# Altium integrated library Diodes - TVS.IntLib: 5379 symbols (part 121 of 122)
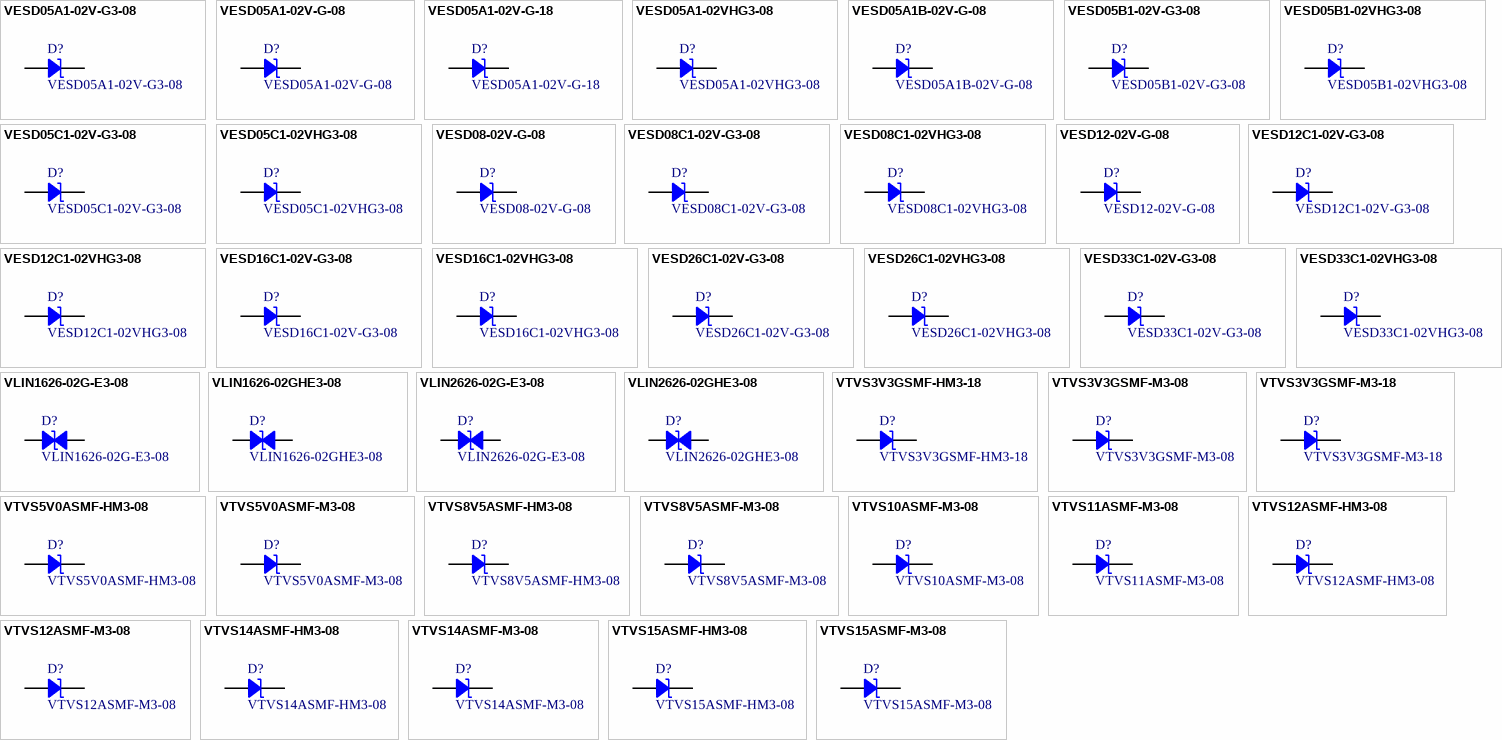
[diagram p254: symbols VESD05A1-02V-G3-08 to VTVS15ASMF-M3-08]

## VESD08-02V-G-08
designator D?
TVS DIODE 8V 30V SOD523; Manufacturer: Vishay Semiconductor Diodes Division; Capacitance @ Frequency: 35pF @ 1MHz; Current - Peak Pulse (10/1000µs): 4A (8/20µs); Power Line Protection: No; Power - Peak Pulse: 120W; Type: Zener; Unidirectional Channels: 1; Voltage - Breakdown (Min): 9V; Voltage - Clamping (Max) @ Ipp: 30V (Typ); Voltage - Reverse Standoff (Typ): 8V (Max); Part Number: VESD08-02V-G-08; Applications: General Purpose; ComponentLink1Description: Datasheet; ComponentLink1URL: https://www.vishay.com/docs/83367/vesdxx02v.pdf; ComponentLink2Description: DigiKey Link; ComponentLink2URL: http://digikey.com/product-detail/en/vishay-semiconductor-diodes-division/VESD08-02V-G-08/VESD08-02V-G-08CT-ND/2658771; LastUpdated: 9/2/2020 1:28:24 AM; Lifecycle Status: Active; Minimum Order: 1; Mounting Type: Surface Mount; Operating Temperature: -40°C ~ 125°C (TJ); Package / Case: SC-79, SOD-523; Packaging: TapeAndReel; PartId: 9734; Part Status: Active; Price: 0.08; Series: -; Supplier 1: DigiKey; Supplier Part Number 1: VESD08-02V-G-08CT-ND; Supplier Device Package: SOD-523
footprint SOD523F
pins: 1, 2

## VESD08C1-02V-G3-08
designator D?
ESD PROTECTION DIODE SOD-523; Manufacturer: Vishay Semiconductor Diodes Division; Capacitance @ Frequency: 47pF @ 1MHz; Current - Peak Pulse (10/1000µs): 6.6A (8/20µs); Power Line Protection: No; Power - Peak Pulse: 100W; Type: Zener; Unidirectional Channels: 1; Voltage - Breakdown (Min): 9.5V; Voltage - Clamping (Max) @ Ipp: 15.3V; Voltage - Reverse Standoff (Typ): 8V (Max); Part Number: VESD08C1-02V-G3-08; Applications: Automotive; ComponentLink1Description: Datasheet; ComponentLink1URL: http://www.vishay.com/docs/86130/vesd01c1-02vtovesd33c1-02v.pdf; ComponentLink2Description: DigiKey Link; ComponentLink2URL: http://digikey.com/product-detail/en/vishay-semiconductor-diodes-division/VESD08C1-02V-G3-08/VESD08C1-02V-G3-08GICT-ND/9948017; LastUpdated: 9/2/2020 1:28:24 AM; Lifecycle Status: Active; Minimum Order: 1; Mounting Type: Surface Mount; Operating Temperature: -55°C ~ 150°C (TJ); Package / Case: SC-79, SOD-523; Packaging: TapeAndReel; PartId: 9730; Part Status: Active; Price: 0.06; Series: Automotive, AEC-Q101; Supplier 1: DigiKey; Supplier Part Number 1: VESD08C1-02V-G3-08GICT-ND; Supplier Device Package: SOD-523
footprint SOD523F
pins: 1, 2

## VESD08C1-02VHG3-08
designator D?
ESD PROTECTION DIODE SOD-523; Manufacturer: Vishay Semiconductor Diodes Division; Capacitance @ Frequency: 47pF @ 1MHz; Current - Peak Pulse (10/1000µs): 6.6A (8/20µs); Power Line Protection: No; Power - Peak Pulse: 100W; Type: Zener; Unidirectional Channels: 1; Voltage - Breakdown (Min): 9.5V; Voltage - Clamping (Max) @ Ipp: 15.3V; Voltage - Reverse Standoff (Typ): 8V (Max); Part Number: VESD08C1-02VHG3-08; Applications: Automotive; ComponentLink1Description: Datasheet; ComponentLink1URL: http://www.vishay.com/docs/86130/vesd01c1-02vtovesd33c1-02v.pdf; ComponentLink2Description: DigiKey Link; ComponentLink2URL: http://digikey.com/product-detail/en/vishay-semiconductor-diodes-division/VESD08C1-02VHG3-08/VESD08C1-02VHG3-08GICT-ND/9948027; LastUpdated: 9/2/2020 1:28:24 AM; Lifecycle Status: Active; Minimum Order: 1; Mounting Type: Surface Mount; Operating Temperature: -55°C ~ 150°C (TJ); Package / Case: SC-79, SOD-523; Packaging: TapeAndReel; PartId: 9787; Part Status: Active; Price: 0.06; Series: Automotive, AEC-Q101; Supplier 1: DigiKey; Supplier Part Number 1: VESD08C1-02VHG3-08GICT-ND; Supplier Device Package: SOD-523
footprint SOD523F
pins: 1, 2

## VESD12-02V-G-08
designator D?
TVS DIODE 12V 25V SOD523; Manufacturer: Vishay Semiconductor Diodes Division; Capacitance @ Frequency: 30pF @ 1MHz; Current - Peak Pulse (10/1000µs): 2A (8/20µs); Power Line Protection: No; Power - Peak Pulse: 25W; Type: Zener; Unidirectional Channels: 1; Voltage - Breakdown (Min): 14V; Voltage - Clamping (Max) @ Ipp: 25V (Typ); Voltage - Reverse Standoff (Typ): 12V (Max); Part Number: VESD12-02V-G-08; Applications: General Purpose; ComponentLink1Description: Datasheet; ComponentLink1URL: https://www.vishay.com/docs/83367/vesdxx02v.pdf; ComponentLink2Description: DigiKey Link; ComponentLink2URL: http://digikey.com/product-detail/en/vishay-semiconductor-diodes-division/VESD12-02V-G-08/VESD12-02V-G-08CT-ND/2658778; LastUpdated: 9/2/2020 1:28:24 AM; Lifecycle Status: Active; Minimum Order: 1; Mounting Type: Surface Mount; Operating Temperature: -40°C ~ 125°C (TJ); Package / Case: SC-79, SOD-523; Packaging: TapeAndReel; PartId: 9748; Part Status: Active; Price: 0.08; Series: -; Supplier 1: DigiKey; Supplier Part Number 1: VESD12-02V-G-08CT-ND; Supplier Device Package: SOD-523
footprint SOD523F
pins: 1, 2

## VESD12C1-02V-G3-08
designator D?
ESD PROTECTION DIODE SOD-523; Manufacturer: Vishay Semiconductor Diodes Division; Capacitance @ Frequency: 33pF @ 1MHz; Current - Peak Pulse (10/1000µs): 4.4A (8/20µs); Power Line Protection: No; Power - Peak Pulse: 100W; Type: Zener; Unidirectional Channels: 1; Voltage - Breakdown (Min): 13.9V; Voltage - Clamping (Max) @ Ipp: 22.7V; Voltage - Reverse Standoff (Typ): 12V (Max); Part Number: VESD12C1-02V-G3-08; Applications: Automotive; ComponentLink1Description: Datasheet; ComponentLink1URL: http://www.vishay.com/docs/86130/vesd01c1-02vtovesd33c1-02v.pdf; ComponentLink2Description: DigiKey Link; ComponentLink2URL: http://digikey.com/product-detail/en/vishay-semiconductor-diodes-division/VESD12C1-02V-G3-08/VESD12C1-02V-G3-08GICT-ND/9948018; LastUpdated: 9/2/2020 1:28:24 AM; Lifecycle Status: Active; Minimum Order: 1; Mounting Type: Surface Mount; Operating Temperature: -55°C ~ 150°C (TJ); Package / Case: SC-79, SOD-523; Packaging: TapeAndReel; PartId: 9732; Part Status: Active; Price: 0.06; Series: Automotive, AEC-Q101; Supplier 1: DigiKey; Supplier Part Number 1: VESD12C1-02V-G3-08GICT-ND; Supplier Device Package: SOD-523
footprint SOD523F
pins: 1, 2

## VESD12C1-02VHG3-08
designator D?
ESD PROTECTION DIODE SOD-523; Manufacturer: Vishay Semiconductor Diodes Division; Capacitance @ Frequency: 33pF @ 1MHz; Current - Peak Pulse (10/1000µs): 4.4A (8/20µs); Power Line Protection: No; Power - Peak Pulse: 100W; Type: Zener; Unidirectional Channels: 1; Voltage - Breakdown (Min): 13.9V; Voltage - Clamping (Max) @ Ipp: 22.7V; Voltage - Reverse Standoff (Typ): 12V (Max); Part Number: VESD12C1-02VHG3-08; Applications: Automotive; ComponentLink1Description: Datasheet; ComponentLink1URL: http://www.vishay.com/docs/86130/vesd01c1-02vtovesd33c1-02v.pdf; ComponentLink2Description: DigiKey Link; ComponentLink2URL: http://digikey.com/product-detail/en/vishay-semiconductor-diodes-division/VESD12C1-02VHG3-08/VESD12C1-02VHG3-08GICT-ND/9948028; LastUpdated: 9/2/2020 1:28:24 AM; Lifecycle Status: Active; Minimum Order: 1; Mounting Type: Surface Mount; Operating Temperature: -55°C ~ 150°C (TJ); Package / Case: SC-79, SOD-523; Packaging: TapeAndReel; PartId: 9738; Part Status: Active; Price: 0.06; Series: Automotive, AEC-Q101; Supplier 1: DigiKey; Supplier Part Number 1: VESD12C1-02VHG3-08GICT-ND; Supplier Device Package: SOD-523
footprint SOD523F
pins: 1, 2

## VESD16C1-02V-G3-08
designator D?
ESD PROTECTION DIODE SOD-523; Manufacturer: Vishay Semiconductor Diodes Division; Capacitance @ Frequency: 27pF @ 1MHz; Current - Peak Pulse (10/1000µs): 3.6A (8/20µs); Power Line Protection: No; Power - Peak Pulse: 100W; Type: Zener; Unidirectional Channels: 1; Voltage - Breakdown (Min): 17V; Voltage - Clamping (Max) @ Ipp: 28V; Voltage - Reverse Standoff (Typ): 16V (Max); Part Number: VESD16C1-02V-G3-08; Applications: Automotive; ComponentLink1Description: Datasheet; ComponentLink1URL: http://www.vishay.com/docs/86130/vesd01c1-02vtovesd33c1-02v.pdf; ComponentLink2Description: DigiKey Link; ComponentLink2URL: http://digikey.com/product-detail/en/vishay-semiconductor-diodes-division/VESD16C1-02V-G3-08/VESD16C1-02V-G3-08GICT-ND/9948019; LastUpdated: 9/2/2020 1:28:24 AM; Lifecycle Status: Active; Minimum Order: 1; Mounting Type: Surface Mount; Operating Temperature: -55°C ~ 150°C (TJ); Package / Case: SC-79, SOD-523; Packaging: TapeAndReel; PartId: 9731; Part Status: Active; Price: 0.06; Series: Automotive, AEC-Q101; Supplier 1: DigiKey; Supplier Part Number 1: VESD16C1-02V-G3-08GICT-ND; Supplier Device Package: SOD-523
footprint SOD523F
pins: 1, 2

## VESD16C1-02VHG3-08
designator D?
ESD PROTECTION DIODE SOD-523; Manufacturer: Vishay Semiconductor Diodes Division; Capacitance @ Frequency: 27pF @ 1MHz; Current - Peak Pulse (10/1000µs): 3.6A (8/20µs); Power Line Protection: No; Power - Peak Pulse: 100W; Type: Zener; Unidirectional Channels: 1; Voltage - Breakdown (Min): 17V; Voltage - Clamping (Max) @ Ipp: 28V; Voltage - Reverse Standoff (Typ): 16V (Max); Part Number: VESD16C1-02VHG3-08; Applications: Automotive; ComponentLink1Description: Datasheet; ComponentLink1URL: http://www.vishay.com/docs/86130/vesd01c1-02vtovesd33c1-02v.pdf; ComponentLink2Description: DigiKey Link; ComponentLink2URL: http://digikey.com/product-detail/en/vishay-semiconductor-diodes-division/VESD16C1-02VHG3-08/VESD16C1-02VHG3-08GICT-ND/9948029; LastUpdated: 9/2/2020 1:28:24 AM; Lifecycle Status: Active; Minimum Order: 1; Mounting Type: Surface Mount; Operating Temperature: -55°C ~ 150°C (TJ); Package / Case: SC-79, SOD-523; Packaging: TapeAndReel; PartId: 9799; Part Status: Active; Price: 0.06; Series: Automotive, AEC-Q101; Supplier 1: DigiKey; Supplier Part Number 1: VESD16C1-02VHG3-08GICT-ND; Supplier Device Package: SOD-523
footprint SOD523F
pins: 1, 2

## VESD26C1-02V-G3-08
designator D?
ESD PROTECTION DIODE SOD-523; Manufacturer: Vishay Semiconductor Diodes Division; Capacitance @ Frequency: 17.5pF @ 1MHz; Current - Peak Pulse (10/1000µs): 2.1A (8/20µs); Power Line Protection: No; Power - Peak Pulse: 100W; Type: Zener; Unidirectional Channels: 1; Voltage - Breakdown (Min): 27.6V; Voltage - Clamping (Max) @ Ipp: 48V; Voltage - Reverse Standoff (Typ): 26V (Max); Part Number: VESD26C1-02V-G3-08; Applications: Automotive; ComponentLink1Description: Datasheet; ComponentLink1URL: http://www.vishay.com/docs/86130/vesd01c1-02vtovesd33c1-02v.pdf; ComponentLink2Description: DigiKey Link; ComponentLink2URL: http://digikey.com/product-detail/en/vishay-semiconductor-diodes-division/VESD26C1-02V-G3-08/VESD26C1-02V-G3-08GICT-ND/9948020; LastUpdated: 9/2/2020 1:28:23 AM; Lifecycle Status: Active; Minimum Order: 1; Mounting Type: Surface Mount; Operating Temperature: -55°C ~ 150°C (TJ); Package / Case: SC-79, SOD-523; Packaging: TapeAndReel; PartId: 9726; Part Status: Active; Price: 0.06; Series: Automotive, AEC-Q101; Supplier 1: DigiKey; Supplier Part Number 1: VESD26C1-02V-G3-08GICT-ND; Supplier Device Package: SOD-523
footprint SOD523F
pins: 1, 2

## VESD26C1-02VHG3-08
designator D?
ESD PROTECTION DIODE SOD-523; Manufacturer: Vishay Semiconductor Diodes Division; Capacitance @ Frequency: 17.5pF @ 1MHz; Current - Peak Pulse (10/1000µs): 2.1A (8/20µs); Power Line Protection: No; Power - Peak Pulse: 100W; Type: Zener; Unidirectional Channels: 1; Voltage - Breakdown (Min): 27.6V; Voltage - Clamping (Max) @ Ipp: 48V; Voltage - Reverse Standoff (Typ): 26V (Max); Part Number: VESD26C1-02VHG3-08; Applications: Automotive; ComponentLink1Description: Datasheet; ComponentLink1URL: http://www.vishay.com/docs/86130/vesd01c1-02vtovesd33c1-02v.pdf; ComponentLink2Description: DigiKey Link; ComponentLink2URL: http://digikey.com/product-detail/en/vishay-semiconductor-diodes-division/VESD26C1-02VHG3-08/VESD26C1-02VHG3-08GICT-ND/9948030; LastUpdated: 9/2/2020 1:28:24 AM; Lifecycle Status: Active; Minimum Order: 1; Mounting Type: Surface Mount; Operating Temperature: -55°C ~ 150°C (TJ); Package / Case: SC-79, SOD-523; Packaging: TapeAndReel; PartId: 9737; Part Status: Active; Price: 0.06; Series: Automotive, AEC-Q101; Supplier 1: DigiKey; Supplier Part Number 1: VESD26C1-02VHG3-08GICT-ND; Supplier Device Package: SOD-523
footprint SOD523F
pins: 1, 2

## VESD33C1-02V-G3-08
designator D?
ESD PROTECTION DIODE SOD-523; Manufacturer: Vishay Semiconductor Diodes Division; Capacitance @ Frequency: 15pF @ 1MHz; Current - Peak Pulse (10/1000µs): 1.6A (8/20µs); Power Line Protection: No; Power - Peak Pulse: 100W; Type: Zener; Unidirectional Channels: 1; Voltage - Breakdown (Min): 35.5V; Voltage - Clamping (Max) @ Ipp: 62.5V; Voltage - Reverse Standoff (Typ): 33V (Max); Part Number: VESD33C1-02V-G3-08; Applications: Automotive; ComponentLink1Description: Datasheet; ComponentLink1URL: http://www.vishay.com/docs/86130/vesd01c1-02vtovesd33c1-02v.pdf; ComponentLink2Description: DigiKey Link; ComponentLink2URL: http://digikey.com/product-detail/en/vishay-semiconductor-diodes-division/VESD33C1-02V-G3-08/VESD33C1-02V-G3-08GICT-ND/9948021; LastUpdated: 9/2/2020 1:28:24 AM; Lifecycle Status: Active; Minimum Order: 1; Mounting Type: Surface Mount; Operating Temperature: -55°C ~ 150°C (TJ); Package / Case: SC-79, SOD-523; Packaging: TapeAndReel; PartId: 9728; Part Status: Active; Price: 0.06; Series: Automotive, AEC-Q101; Supplier 1: DigiKey; Supplier Part Number 1: VESD33C1-02V-G3-08GICT-ND; Supplier Device Package: SOD-523
footprint SOD523F
pins: 1, 2

## VESD33C1-02VHG3-08
designator D?
ESD PROTECTION DIODE SOD-523; Manufacturer: Vishay Semiconductor Diodes Division; Capacitance @ Frequency: 15pF @ 1MHz; Current - Peak Pulse (10/1000µs): 1.6A (8/20µs); Power Line Protection: No; Power - Peak Pulse: 100W; Type: Zener; Unidirectional Channels: 1; Voltage - Breakdown (Min): 35.5V; Voltage - Clamping (Max) @ Ipp: 62.5V; Voltage - Reverse Standoff (Typ): 33V (Max); Part Number: VESD33C1-02VHG3-08; Applications: Automotive; ComponentLink1Description: Datasheet; ComponentLink1URL: http://www.vishay.com/docs/86130/vesd01c1-02vtovesd33c1-02v.pdf; ComponentLink2Description: DigiKey Link; ComponentLink2URL: http://digikey.com/product-detail/en/vishay-semiconductor-diodes-division/VESD33C1-02VHG3-08/VESD33C1-02VHG3-08GICT-ND/9948031; LastUpdated: 9/2/2020 1:28:24 AM; Lifecycle Status: Active; Minimum Order: 1; Mounting Type: Surface Mount; Operating Temperature: -55°C ~ 150°C (TJ); Package / Case: SC-79, SOD-523; Packaging: TapeAndReel; PartId: 9735; Part Status: Active; Price: 0.06; Series: Automotive, AEC-Q101; Supplier 1: DigiKey; Supplier Part Number 1: VESD33C1-02VHG3-08GICT-ND; Supplier Device Package: SOD-523
footprint SOD523F
pins: 1, 2

## VLIN1626-02G-E3-08
designator D?
TVS DIODE 16/26.5V 33/50V SOD323; Manufacturer: Vishay Semiconductor Diodes Division; Bidirectional Channels: 1; Capacitance @ Frequency: 15.5pF @ 1MHz; Current - Peak Pulse (10/1000µs): 6A (8/20µs), 4A (8/20µs); Power Line Protection: No; Power - Peak Pulse: 200W; Type: Zener; Voltage - Breakdown (Min): 17.1V, 28V; Voltage - Clamping (Max) @ Ipp: 33V, 50V; Voltage - Reverse Standoff (Typ): 16V (Max), 26.5V (Max); Part Number: VLIN1626-02G-E3-08; Applications: General Purpose; ComponentLink1Description: Datasheet; ComponentLink1URL: https://www.vishay.com/docs/85902/vlin1626-02g.pdf; ComponentLink2Description: DigiKey Link; ComponentLink2URL: http://digikey.com/product-detail/en/vishay-semiconductor-diodes-division/VLIN1626-02G-E3-08/VLIN1626-02G-E3-08GICT-ND/6021437; LastUpdated: 9/2/2020 1:28:29 AM; Lifecycle Status: Active; Minimum Order: 1; Mounting Type: Surface Mount; Operating Temperature: -55°C ~ 150°C (TJ); Package / Case: SC-76, SOD-323; Packaging: TapeAndReel; PartId: 9942; Part Status: Active; Price: 0.09; Series: -; Supplier 1: DigiKey; Supplier Part Number 1: VLIN1626-02G-E3-08GICT-ND; Supplier Device Package: SOD-323
footprint SOD323
pins: 1, 2

## VLIN1626-02GHE3-08
designator D?
TVS DIODE 16/26.5V 33/50V SOD323; Manufacturer: Vishay Semiconductor Diodes Division; Bidirectional Channels: 1; Capacitance @ Frequency: 15.5pF @ 1MHz; Current - Peak Pulse (10/1000µs): 6A (8/20µs), 4A (8/20µs); Power Line Protection: No; Power - Peak Pulse: 200W; Type: Zener; Voltage - Breakdown (Min): 17.1V, 28V; Voltage - Clamping (Max) @ Ipp: 33V, 50V; Voltage - Reverse Standoff (Typ): 16V (Max), 26.5V (Max); Part Number: VLIN1626-02GHE3-08; Applications: Automotive; ComponentLink1Description: Datasheet; ComponentLink1URL: http://www.vishay.com/docs/85902/vlin1626-02g.pdf; ComponentLink2Description: DigiKey Link; ComponentLink2URL: http://digikey.com/product-detail/en/vishay-semiconductor-diodes-division/VLIN1626-02GHE3-08/VLIN1626-02GHE3-08GICT-ND/8565407; LastUpdated: 9/2/2020 1:28:29 AM; Lifecycle Status: Active; Minimum Order: 1; Mounting Type: Surface Mount; Operating Temperature: -55°C ~ 150°C (TJ); Package / Case: SC-76, SOD-323; Packaging: TapeAndReel; PartId: 9958; Part Status: Active; Price: 0.10; Series: Automotive, AEC-Q101; Supplier 1: DigiKey; Supplier Part Number 1: VLIN1626-02GHE3-08GICT-ND; Supplier Device Package: SOD-323
footprint SOD323
pins: 1, 2

## VLIN2626-02G-E3-08
designator D?
TVS DIODE 26.5V 50V SOD323; Manufacturer: Vishay Semiconductor Diodes Division; Bidirectional Channels: 1; Capacitance @ Frequency: 13.5pF @ 1MHz; Current - Peak Pulse (10/1000µs): 4A (8/20µs); Power Line Protection: No; Power - Peak Pulse: 200W; Type: Zener; Voltage - Breakdown (Min): 28V; Voltage - Reverse Standoff (Typ): 26.5V (Max); Part Number: VLIN2626-02G-E3-08; Applications: General Purpose; ComponentLink1Description: Datasheet; ComponentLink1URL: https://www.vishay.com/docs/85915/vlin2626-02g.pdf; ComponentLink2Description: DigiKey Link; ComponentLink2URL: http://digikey.com/product-detail/en/vishay-semiconductor-diodes-division/VLIN2626-02G-E3-08/VLIN2626-02G-E3-08GICT-ND/6021438; LastUpdated: 9/2/2020 1:28:29 AM; Lifecycle Status: Active; Minimum Order: 1; Mounting Type: Surface Mount; Operating Temperature: -55°C ~ 150°C (TJ); Package / Case: SC-76, SOD-323; Packaging: TapeAndReel; PartId: 9979; Part Status: Active; Price: 0.10; Series: -; Supplier 1: DigiKey; Supplier Part Number 1: VLIN2626-02G-E3-08GICT-ND; Supplier Device Package: SOD-323; Voltage - Clamping (Max) @ Ipp: 50V
footprint SOD323
pins: 1, 2

## VLIN2626-02GHE3-08
designator D?
TVS DIODE 26.5V 50V SOD323; Manufacturer: Vishay Semiconductor Diodes Division; Bidirectional Channels: 1; Capacitance @ Frequency: 13.5pF @ 1MHz; Current - Peak Pulse (10/1000µs): 4A (8/20µs); Power Line Protection: No; Power - Peak Pulse: 200W; Type: Zener; Voltage - Breakdown (Min): 28V; Voltage - Reverse Standoff (Typ): 26.5V (Max); Part Number: VLIN2626-02GHE3-08; Applications: Automotive; ComponentLink1Description: Datasheet; ComponentLink1URL: https://www.vishay.com/docs/85915/vlin2626-02g.pdf; ComponentLink2Description: DigiKey Link; ComponentLink2URL: http://digikey.com/product-detail/en/vishay-semiconductor-diodes-division/VLIN2626-02GHE3-08/VLIN2626-02GHE3-08GICT-ND/8565408; LastUpdated: 9/2/2020 1:28:29 AM; Lifecycle Status: Active; Minimum Order: 1; Mounting Type: Surface Mount; Operating Temperature: -55°C ~ 150°C (TJ); Package / Case: SC-76, SOD-323; Packaging: TapeAndReel; PartId: 9959; Part Status: Active; Price: 0.10; Series: Automotive, AEC-Q101; Supplier 1: DigiKey; Supplier Part Number 1: VLIN2626-02GHE3-08GICT-ND; Supplier Device Package: SOD-323; Voltage - Clamping (Max) @ Ipp: 50V
footprint SOD323
pins: 1, 2

## VTVS3V3GSMF-HM3-18
designator D?
ESD PROTECTION DIODE DO-219AB-HM; Manufacturer: Vishay Semiconductor Diodes Division; Capacitance @ Frequency: 2095pF @ 1MHz; Current - Peak Pulse (10/1000µs): 43.99A; Power Line Protection: No; Power - Peak Pulse: 400W; Type: Zener; Unidirectional Channels: 1; Voltage - Breakdown (Min): 6.57V; Voltage - Clamping (Max) @ Ipp: 8.9V; Voltage - Reverse Standoff (Typ): 3.3V; Part Number: VTVS3V3GSMF-HM3-18; Applications: Automotive; ComponentLink1Description: Datasheet; ComponentLink1URL: http://www.vishay.com/docs/85891/vtvs3v3asmf.pdf; ComponentLink2Description: DigiKey Link; ComponentLink2URL: http://digikey.com/product-detail/en/vishay-semiconductor-diodes-division/VTVS3V3GSMF-HM3-18/VTVS3V3GSMF-HM3-18GICT-ND/9467502; LastUpdated: 9/2/2020 1:27:45 AM; Lifecycle Status: Active; Minimum Order: 1; Mounting Type: Surface Mount; Operating Temperature: 175°C (TJ); Package / Case: DO-219AB; Packaging: TapeAndReel; PartId: 5498; Part Status: Active; Price: 0.19; Series: Automotive, AEC-Q101, TransZorb®; Supplier 1: DigiKey; Supplier Part Number 1: VTVS3V3GSMF-HM3-18GICT-ND; Supplier Device Package: DO-219AB (SMF)
footprint SMF DO-219AB
pins: 1, 2

## VTVS3V3GSMF-M3-08
designator D?
ESD PROTECTION DIODE DO-219AB-M3; Manufacturer: Vishay Semiconductor Diodes Division; Capacitance @ Frequency: 2095pF @ 1MHz; Current - Peak Pulse (10/1000µs): 43.99A; Power Line Protection: No; Power - Peak Pulse: 400W; Type: Zener; Unidirectional Channels: 1; Voltage - Breakdown (Min): 6.57V; Voltage - Clamping (Max) @ Ipp: 8.9V; Voltage - Reverse Standoff (Typ): 3.3V; Part Number: VTVS3V3GSMF-M3-08; Applications: General Purpose; ComponentLink1Description: Datasheet; ComponentLink1URL: http://www.vishay.com/docs/85891/vtvs3v3asmf.pdf; ComponentLink2Description: DigiKey Link; ComponentLink2URL: http://digikey.com/product-detail/en/vishay-semiconductor-diodes-division/VTVS3V3GSMF-M3-08/VTVS3V3GSMF-M3-08GICT-ND/9467503; LastUpdated: 9/2/2020 1:27:45 AM; Lifecycle Status: Active; Minimum Order: 1; Mounting Type: Surface Mount; Operating Temperature: 175°C (TJ); Package / Case: DO-219AB; Packaging: TapeAndReel; PartId: 5497; Part Status: Active; Price: 0.21; Series: TransZorb®; Supplier 1: DigiKey; Supplier Part Number 1: VTVS3V3GSMF-M3-08GICT-ND; Supplier Device Package: DO-219AB (SMF)
footprint SMF DO-219AB
pins: 1, 2

## VTVS3V3GSMF-M3-18
designator D?
ESD PROTECTION DIODE DO-219AB-M3; Manufacturer: Vishay Semiconductor Diodes Division; Capacitance @ Frequency: 2095pF @ 1MHz; Current - Peak Pulse (10/1000µs): 43.99A; Power Line Protection: No; Power - Peak Pulse: 400W; Type: Zener; Unidirectional Channels: 1; Voltage - Breakdown (Min): 6.57V; Voltage - Clamping (Max) @ Ipp: 8.9V; Voltage - Reverse Standoff (Typ): 3.3V; Part Number: VTVS3V3GSMF-M3-18; Applications: General Purpose; ComponentLink1Description: Datasheet; ComponentLink1URL: http://www.vishay.com/docs/85891/vtvs3v3asmf.pdf; ComponentLink2Description: DigiKey Link; ComponentLink2URL: http://digikey.com/product-detail/en/vishay-semiconductor-diodes-division/VTVS3V3GSMF-M3-18/VTVS3V3GSMF-M3-18GICT-ND/9467504; LastUpdated: 9/2/2020 1:27:45 AM; Lifecycle Status: Active; Minimum Order: 1; Mounting Type: Surface Mount; Operating Temperature: 175°C (TJ); Package / Case: DO-219AB; Packaging: TapeAndReel; PartId: 5499; Part Status: Active; Price: 0.17; Series: TransZorb®; Supplier 1: DigiKey; Supplier Part Number 1: VTVS3V3GSMF-M3-18GICT-ND; Supplier Device Package: DO-219AB (SMF)
footprint SMF DO-219AB
pins: 1, 2

## VTVS5V0ASMF-HM3-08
designator D?
TVS DIODE 5V 8.9V DO219AB; Manufacturer: Vishay Semiconductor Diodes Division; Capacitance @ Frequency: 2095pF @ 1MHz; Current - Peak Pulse (10/1000µs): 42.95A; Power Line Protection: No; Power - Peak Pulse: 400W; Type: Zener; Unidirectional Channels: 1; Voltage - Breakdown (Min): 6.4V; Part Number: VTVS5V0ASMF-HM3-08; Applications: Automotive; ComponentLink1Description: Datasheet; ComponentLink1URL: http://www.vishay.com/docs/85891/vtvs3v3asmf.pdf; ComponentLink2Description: DigiKey Link; ComponentLink2URL: http://digikey.com/product-detail/en/vishay-semiconductor-diodes-division/VTVS5V0ASMF-HM3-08/VTVS5V0ASMF-HM3-08GICT-ND/7056002; LastUpdated: 9/2/2020 1:27:46 AM; Lifecycle Status: Active; Minimum Order: 1; Mounting Type: Surface Mount; Operating Temperature: -55°C ~ 175°C (TJ); Package / Case: DO-219AB; Packaging: TapeAndReel; PartId: 5532; Part Status: Active; Price: 0.12; Series: Automotive, AEC-Q101, TransZorb®; Supplier 1: DigiKey; Supplier Part Number 1: VTVS5V0ASMF-HM3-08GICT-ND; Supplier Device Package: DO-219AB (SMF); Voltage - Clamping (Max) @ Ipp: 8.9V; Voltage - Reverse Standoff (Typ): 5V
footprint SMF DO-219AB
pins: 1, 2

## VTVS5V0ASMF-M3-08
designator D?
TVS DIODE 5V 8.9V DO219AB; Manufacturer: Vishay Semiconductor Diodes Division; Capacitance @ Frequency: 2095pF @ 1MHz; Current - Peak Pulse (10/1000µs): 42.95A; Power Line Protection: No; Power - Peak Pulse: 400W; Type: Zener; Unidirectional Channels: 1; Voltage - Breakdown (Min): 6.4V; Part Number: VTVS5V0ASMF-M3-08; Applications: General Purpose; ComponentLink1Description: Datasheet; ComponentLink1URL: http://www.vishay.com/docs/85891/vtvs3v3asmf.pdf; ComponentLink2Description: DigiKey Link; ComponentLink2URL: http://digikey.com/product-detail/en/vishay-semiconductor-diodes-division/VTVS5V0ASMF-M3-08/VTVS5V0ASMF-M3-08GICT-ND/7056003; LastUpdated: 9/2/2020 1:27:45 AM; Lifecycle Status: Active; Minimum Order: 1; Mounting Type: Surface Mount; Operating Temperature: -55°C ~ 175°C (TJ); Package / Case: DO-219AB; Packaging: TapeAndReel; PartId: 5492; Part Status: Active; Price: 0.11; Series: TransZorb®; Supplier 1: DigiKey; Supplier Part Number 1: VTVS5V0ASMF-M3-08GICT-ND; Supplier Device Package: DO-219AB (SMF); Voltage - Clamping (Max) @ Ipp: 8.9V; Voltage - Reverse Standoff (Typ): 5V
footprint SMF DO-219AB
pins: 1, 2

## VTVS8V5ASMF-HM3-08
designator D?
TVS DIODE 8.5V 13.5V DO219AB; Manufacturer: Vishay Semiconductor Diodes Division; Capacitance @ Frequency: 1270pF @ 1MHz; Current - Peak Pulse (10/1000µs): 28.24A; Power Line Protection: No; Power - Peak Pulse: 400W; Type: Zener; Unidirectional Channels: 1; Voltage - Breakdown (Min): 9.5V; Part Number: VTVS8V5ASMF-HM3-08; Applications: Automotive; ComponentLink1Description: Datasheet; ComponentLink1URL: http://www.vishay.com/docs/85891/vtvs3v3asmf.pdf; ComponentLink2Description: DigiKey Link; ComponentLink2URL: http://digikey.com/product-detail/en/vishay-semiconductor-diodes-division/VTVS8V5ASMF-HM3-08/VTVS8V5ASMF-HM3-08GICT-ND/7402749; LastUpdated: 9/2/2020 1:27:45 AM; Lifecycle Status: Active; Minimum Order: 1; Mounting Type: Surface Mount; Operating Temperature: -55°C ~ 175°C (TJ); Package / Case: DO-219AB; Packaging: TapeAndReel; PartId: 5527; Part Status: Active; Price: 0.12; Series: Automotive, AEC-Q101, TransZorb®; Supplier 1: DigiKey; Supplier Part Number 1: VTVS8V5ASMF-HM3-08GICT-ND; Supplier Device Package: DO-219AB (SMF); Voltage - Clamping (Max) @ Ipp: 13.5V; Voltage - Reverse Standoff (Typ): 8.5V
footprint SMF DO-219AB
pins: 1, 2

## VTVS8V5ASMF-M3-08
designator D?
TVS DIODE 8.5V 13.5V DO219AB; Manufacturer: Vishay Semiconductor Diodes Division; Capacitance @ Frequency: 1270pF @ 1MHz; Current - Peak Pulse (10/1000µs): 28.24A; Power Line Protection: No; Power - Peak Pulse: 400W; Type: Zener; Unidirectional Channels: 1; Voltage - Breakdown (Min): 9.5V; Part Number: VTVS8V5ASMF-M3-08; Applications: General Purpose; ComponentLink1Description: Datasheet; ComponentLink1URL: http://www.vishay.com/docs/85891/vtvs3v3asmf.pdf; ComponentLink2Description: DigiKey Link; ComponentLink2URL: http://digikey.com/product-detail/en/vishay-semiconductor-diodes-division/VTVS8V5ASMF-M3-08/VTVS8V5ASMF-M3-08GICT-ND/7402750; LastUpdated: 9/2/2020 1:27:45 AM; Lifecycle Status: Active; Minimum Order: 1; Mounting Type: Surface Mount; Operating Temperature: -55°C ~ 175°C (TJ); Package / Case: DO-219AB; Packaging: TapeAndReel; PartId: 5489; Part Status: Active; Price: 0.11; Series: TransZorb®; Supplier 1: DigiKey; Supplier Part Number 1: VTVS8V5ASMF-M3-08GICT-ND; Supplier Device Package: DO-219AB (SMF); Voltage - Clamping (Max) @ Ipp: 13.5V; Voltage - Reverse Standoff (Typ): 8.5V
footprint SMF DO-219AB
pins: 1, 2

## VTVS10ASMF-M3-08
designator D?
TVS DIODE 10.3V 16.3V DO219AB; Manufacturer: Vishay Semiconductor Diodes Division; Capacitance @ Frequency: 988pF @ 1MHz; Current - Peak Pulse (10/1000µs): 23.2A; Power Line Protection: No; Power - Peak Pulse: 400W; Type: Zener; Unidirectional Channels: 1; Voltage - Breakdown (Min): 11.4V; Part Number: VTVS10ASMF-M3-08; Applications: General Purpose; ComponentLink1Description: Datasheet; ComponentLink1URL: http://www.vishay.com/docs/85891/vtvs3v3asmf.pdf; ComponentLink2Description: DigiKey Link; ComponentLink2URL: http://digikey.com/product-detail/en/vishay-semiconductor-diodes-division/VTVS10ASMF-M3-08/VTVS10ASMF-M3-08GICT-ND/7055978; LastUpdated: 9/2/2020 1:27:45 AM; Lifecycle Status: Active; Minimum Order: 1; Mounting Type: Surface Mount; Operating Temperature: -55°C ~ 175°C (TJ); Package / Case: DO-219AB; Packaging: TapeAndReel; PartId: 5528; Part Status: Active; Price: 0.11; Series: TransZorb®; Supplier 1: DigiKey; Supplier Part Number 1: VTVS10ASMF-M3-08GICT-ND; Supplier Device Package: DO-219AB (SMF); Voltage - Clamping (Max) @ Ipp: 16.3V; Voltage - Reverse Standoff (Typ): 10.3V
footprint SMF DO-219AB
pins: 1, 2

## VTVS11ASMF-M3-08
designator D?
TVS DIODE 11.2V 18V DO219AB; Manufacturer: Vishay Semiconductor Diodes Division; Capacitance @ Frequency: 910pF @ 1MHz; Current - Peak Pulse (10/1000µs): 21.13A; Power Line Protection: No; Power - Peak Pulse: 400W; Type: DO-219AB; Unidirectional Channels: 1; Voltage - Breakdown (Min): 12.6V; Part Number: VTVS11ASMF-M3-08; Applications: General Purpose; ComponentLink1Description: Datasheet; ComponentLink1URL: http://www.vishay.com/docs/85891/vtvs3v3asmf.pdf; ComponentLink2Description: DigiKey Link; ComponentLink2URL: http://digikey.com/product-detail/en/vishay-semiconductor-diodes-division/VTVS11ASMF-M3-08/112-VTVS11ASMF-M3-08CT-ND/11562550; LastUpdated: 9/2/2020 1:27:45 AM; Lifecycle Status: Active; Minimum Order: 0; Mounting Type: Surface Mount; Operating Temperature: -55°C ~ 175°C (TJ); Package / Case: DO-219AB; Packaging: TapeAndReel; PartId: 5482; Part Status: -55°C ~ 175°C (TJ); Price: 0.09; Series: TransZorb®; Supplier 1: DigiKey; Supplier Part Number 1: 112-VTVS11ASMF-M3-08CT-ND; Supplier Device Package: DO-219AB (SMF); Voltage - Clamping (Max) @ Ipp: 18V; Voltage - Reverse Standoff (Typ): 11.2V
footprint SMF DO-219AB
pins: 1, 2

## VTVS12ASMF-HM3-08
designator D?
TVS DIODE 12.4V 20.1V DO219AB; Manufacturer: Vishay Semiconductor Diodes Division; Capacitance @ Frequency: 807pF @ 1MHz; Current - Peak Pulse (10/1000µs): 19.01A; Power Line Protection: No; Power - Peak Pulse: 400W; Type: Zener; Unidirectional Channels: 1; Voltage - Breakdown (Min): 14V; Part Number: VTVS12ASMF-HM3-08; Applications: Automotive; ComponentLink1Description: Datasheet; ComponentLink1URL: http://www.vishay.com/docs/85891/vtvs3v3asmf.pdf; ComponentLink2Description: DigiKey Link; ComponentLink2URL: http://digikey.com/product-detail/en/vishay-semiconductor-diodes-division/VTVS12ASMF-HM3-08/VTVS12ASMF-HM3-08GICT-ND/7055980; LastUpdated: 9/2/2020 1:27:45 AM; Lifecycle Status: Active; Minimum Order: 1; Mounting Type: Surface Mount; Operating Temperature: -55°C ~ 175°C (TJ); Package / Case: DO-219AB; Packaging: TapeAndReel; PartId: 5495; Part Status: Active; Price: 0.12; Series: Automotive, AEC-Q101, TransZorb®; Supplier 1: DigiKey; Supplier Part Number 1: VTVS12ASMF-HM3-08GICT-ND; Supplier Device Package: DO-219AB (SMF); Voltage - Clamping (Max) @ Ipp: 20.1V; Voltage - Reverse Standoff (Typ): 12.4V
footprint SMF DO-219AB
pins: 1, 2

## VTVS12ASMF-M3-08
designator D?
TVS DIODE 12.4V 20.1V DO219AB; Manufacturer: Vishay Semiconductor Diodes Division; Capacitance @ Frequency: 807pF @ 1MHz; Current - Peak Pulse (10/1000µs): 19.01A; Power Line Protection: No; Power - Peak Pulse: 400W; Type: Zener; Unidirectional Channels: 1; Voltage - Breakdown (Min): 14V; Part Number: VTVS12ASMF-M3-08; Applications: General Purpose; ComponentLink1Description: Datasheet; ComponentLink1URL: http://www.vishay.com/docs/85891/vtvs3v3asmf.pdf; ComponentLink2Description: DigiKey Link; ComponentLink2URL: http://digikey.com/product-detail/en/vishay-semiconductor-diodes-division/VTVS12ASMF-M3-08/VTVS12ASMF-M3-08GICT-ND/7055981; LastUpdated: 9/2/2020 1:27:45 AM; Lifecycle Status: Active; Minimum Order: 1; Mounting Type: Surface Mount; Operating Temperature: -55°C ~ 175°C (TJ); Package / Case: DO-219AB; Packaging: TapeAndReel; PartId: 5490; Part Status: Active; Price: 0.11; Series: TransZorb®; Supplier 1: DigiKey; Supplier Part Number 1: VTVS12ASMF-M3-08GICT-ND; Supplier Device Package: DO-219AB (SMF); Voltage - Clamping (Max) @ Ipp: 20.1V; Voltage - Reverse Standoff (Typ): 12.4V
footprint SMF DO-219AB
pins: 1, 2

## VTVS14ASMF-HM3-08
designator D?
TVS DIODE 13.8V 22.2V DO219AB; Manufacturer: Vishay Semiconductor Diodes Division; Capacitance @ Frequency: 752pF @ 1MHz; Current - Peak Pulse (10/1000µs): 17.16A; Power Line Protection: No; Power - Peak Pulse: 400W; Type: DO-219AB; Unidirectional Channels: 1; Voltage - Breakdown (Min): 15.4V; Part Number: VTVS14ASMF-HM3-08; Applications: Automotive; ComponentLink1Description: Datasheet; ComponentLink1URL: http://www.vishay.com/docs/85891/vtvs3v3asmf.pdf; ComponentLink2Description: DigiKey Link; ComponentLink2URL: http://digikey.com/product-detail/en/vishay-semiconductor-diodes-division/VTVS14ASMF-HM3-08/112-VTVS14ASMF-HM3-08DKR-ND/11562579; LastUpdated: 9/2/2020 1:27:45 AM; Lifecycle Status: Active; Minimum Order: 0; Mounting Type: Surface Mount; Operating Temperature: -55°C ~ 175°C (TJ); Package / Case: DO-219AB; Packaging: TapeAndReel; PartId: 5480; Part Status: -55°C ~ 175°C (TJ); Price: 0.10; Series: Automotive, AEC-Q101, TransZorb®; Supplier 1: DigiKey; Supplier Part Number 1: 112-VTVS14ASMF-HM3-08DKR-ND; Supplier Device Package: DO-219AB (SMF); Voltage - Clamping (Max) @ Ipp: 22.2V; Voltage - Reverse Standoff (Typ): 13.8V
footprint SMF DO-219AB
pins: 1, 2

## VTVS14ASMF-M3-08
designator D?
TVS DIODE 13.8V 22.2V DO219AB; Manufacturer: Vishay Semiconductor Diodes Division; Capacitance @ Frequency: 752pF @ 1MHz; Current - Peak Pulse (10/1000µs): 17.16A; Power Line Protection: No; Power - Peak Pulse: 400W; Type: DO-219AB; Unidirectional Channels: 1; Voltage - Breakdown (Min): 15.4V; Part Number: VTVS14ASMF-M3-08; Applications: General Purpose; ComponentLink1Description: Datasheet; ComponentLink1URL: http://www.vishay.com/docs/85891/vtvs3v3asmf.pdf; ComponentLink2Description: DigiKey Link; ComponentLink2URL: http://digikey.com/product-detail/en/vishay-semiconductor-diodes-division/VTVS14ASMF-M3-08/112-VTVS14ASMF-M3-08DKR-ND/11562553; LastUpdated: 9/2/2020 1:27:45 AM; Lifecycle Status: Active; Minimum Order: 0; Mounting Type: Surface Mount; Operating Temperature: -55°C ~ 175°C (TJ); Package / Case: DO-219AB; Packaging: TapeAndReel; PartId: 5485; Part Status: -55°C ~ 175°C (TJ); Price: 0.09; Series: TransZorb®; Supplier 1: DigiKey; Supplier Part Number 1: 112-VTVS14ASMF-M3-08DKR-ND; Supplier Device Package: DO-219AB (SMF); Voltage - Clamping (Max) @ Ipp: 22.2V; Voltage - Reverse Standoff (Typ): 13.8V
footprint SMF DO-219AB
pins: 1, 2

## VTVS15ASMF-HM3-08
designator D?
TVS DIODE 15.1V 25V DO219AB; Manufacturer: Vishay Semiconductor Diodes Division; Capacitance @ Frequency: 684pF @ 1MHz; Current - Peak Pulse (10/1000µs): 15.47A; Power Line Protection: No; Power - Peak Pulse: 400W; Type: Zener; Unidirectional Channels: 1; Voltage - Breakdown (Min): 17.1V; Part Number: VTVS15ASMF-HM3-08; Applications: Automotive; ComponentLink1Description: Datasheet; ComponentLink1URL: http://www.vishay.com/docs/85891/vtvs3v3asmf.pdf; ComponentLink2Description: DigiKey Link; ComponentLink2URL: http://digikey.com/product-detail/en/vishay-semiconductor-diodes-division/VTVS15ASMF-HM3-08/VTVS15ASMF-HM3-08GICT-ND/9601411; LastUpdated: 9/2/2020 1:27:46 AM; Lifecycle Status: Active; Minimum Order: 1; Mounting Type: Surface Mount; Operating Temperature: -55°C ~ 175°C (TJ); Package / Case: DO-219AB; Packaging: TapeAndReel; PartId: 5535; Part Status: Active; Price: 0.12; Series: Automotive, AEC-Q101, TransZorb®; Supplier 1: DigiKey; Supplier Part Number 1: VTVS15ASMF-HM3-08GICT-ND; Supplier Device Package: DO-219AB (SMF); Voltage - Clamping (Max) @ Ipp: 25V; Voltage - Reverse Standoff (Typ): 15.1V
footprint SMF DO-219AB
pins: 1, 2

## VTVS15ASMF-M3-08
designator D?
TVS DIODE 15.1V 25V DO219AB; Manufacturer: Vishay Semiconductor Diodes Division; Capacitance @ Frequency: 684pF @ 1MHz; Current - Peak Pulse (10/1000µs): 15.47A; Power Line Protection: No; Power - Peak Pulse: 400W; Type: Zener; Unidirectional Channels: 1; Voltage - Breakdown (Min): 17.1V; Part Number: VTVS15ASMF-M3-08; Applications: General Purpose; ComponentLink1Description: Datasheet; ComponentLink1URL: http://www.vishay.com/docs/85891/vtvs3v3asmf.pdf; ComponentLink2Description: DigiKey Link; ComponentLink2URL: http://digikey.com/product-detail/en/vishay-semiconductor-diodes-division/VTVS15ASMF-M3-08/VTVS15ASMF-M3-08GICT-ND/7055985; LastUpdated: 9/2/2020 1:27:45 AM; Lifecycle Status: Active; Minimum Order: 1; Mounting Type: Surface Mount; Operating Temperature: -55°C ~ 175°C (TJ); Package / Case: DO-219AB; Packaging: TapeAndReel; PartId: 5493; Part Status: Active; Price: 0.11; Series: TransZorb®; Supplier 1: DigiKey; Supplier Part Number 1: VTVS15ASMF-M3-08GICT-ND; Supplier Device Package: DO-219AB (SMF); Voltage - Clamping (Max) @ Ipp: 25V; Voltage - Reverse Standoff (Typ): 15.1V
footprint SMF DO-219AB
pins: 1, 2

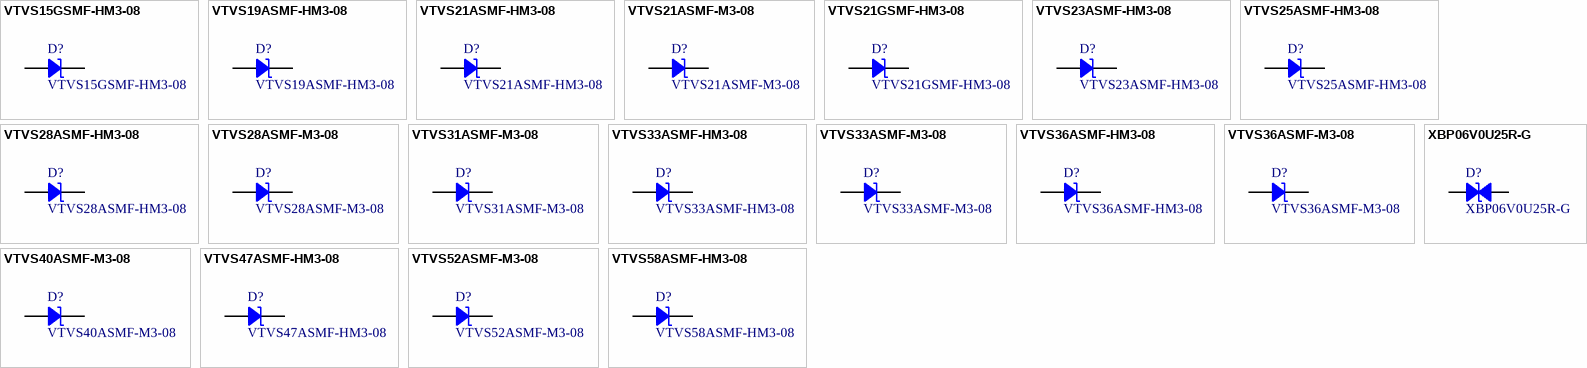
[diagram p134: symbols VTVS15GSMF-HM3-08 to XBP06V0U25R-G]

## VTVS15GSMF-HM3-08
designator D?
TVS DIODE 15.1V 25V DO219AB; Manufacturer: Vishay Semiconductor Diodes Division; Capacitance @ Frequency: 684pF @ 1MHz; Current - Peak Pulse (10/1000µs): 15.89A; Power Line Protection: No; Power - Peak Pulse: 400W; Type: Zener; Unidirectional Channels: 1; Voltage - Breakdown (Min): 17.6V; Part Number: VTVS15GSMF-HM3-08; Applications: Automotive; ComponentLink1Description: Datasheet; ComponentLink1URL: http://www.vishay.com/docs/85891/vtvs3v3asmf.pdf; ComponentLink2Description: DigiKey Link; ComponentLink2URL: http://digikey.com/product-detail/en/vishay-semiconductor-diodes-division/VTVS15GSMF-HM3-08/VTVS15GSMF-HM3-08GICT-ND/7055986; LastUpdated: 9/2/2020 1:27:45 AM; Lifecycle Status: Active; Minimum Order: 1; Mounting Type: Surface Mount; Operating Temperature: -55°C ~ 175°C (TJ); Package / Case: DO-219AB; Packaging: TapeAndReel; PartId: 5487; Part Status: Active; Price: 0.23; Series: Automotive, AEC-Q101, TransZorb®; Supplier 1: DigiKey; Supplier Part Number 1: VTVS15GSMF-HM3-08GICT-ND; Supplier Device Package: DO-219AB (SMF); Voltage - Clamping (Max) @ Ipp: 25V; Voltage - Reverse Standoff (Typ): 15.1V
footprint SMF DO-219AB
pins: 1, 2

## VTVS19ASMF-HM3-08
designator D?
TVS DIODE 18.7V 31V DO219AB; Manufacturer: Vishay Semiconductor Diodes Division; Capacitance @ Frequency: 558pF @ 1MHz; Current - Peak Pulse (10/1000µs): 12.44A; Power Line Protection: No; Power - Peak Pulse: 400W; Type: DO-219AB; Unidirectional Channels: 1; Voltage - Breakdown (Min): 20.9V; Part Number: VTVS19ASMF-HM3-08; Applications: Automotive; ComponentLink1Description: Datasheet; ComponentLink1URL: http://www.vishay.com/docs/85891/vtvs3v3asmf.pdf; ComponentLink2Description: DigiKey Link; ComponentLink2URL: http://digikey.com/product-detail/en/vishay-semiconductor-diodes-division/VTVS19ASMF-HM3-08/112-VTVS19ASMF-HM3-08CT-ND/11562574; LastUpdated: 9/2/2020 1:27:45 AM; Lifecycle Status: Active; Minimum Order: 0; Mounting Type: Surface Mount; Operating Temperature: -55°C ~ 175°C (TJ); Package / Case: DO-219AB; Packaging: TapeAndReel; PartId: 5477; Part Status: -55°C ~ 175°C (TJ); Price: 0.10; Series: Automotive, AEC-Q101, TransZorb®; Supplier 1: DigiKey; Supplier Part Number 1: 112-VTVS19ASMF-HM3-08CT-ND; Supplier Device Package: DO-219AB (SMF); Voltage - Clamping (Max) @ Ipp: 31V; Voltage - Reverse Standoff (Typ): 18.7V
footprint SMF DO-219AB
pins: 1, 2

## VTVS21ASMF-HM3-08
designator D?
TVS DIODE 20.5V 34V DO219AB; Manufacturer: Vishay Semiconductor Diodes Division; Capacitance @ Frequency: 513pF @ 1MHz; Current - Peak Pulse (10/1000µs): 11.33A; Power Line Protection: No; Power - Peak Pulse: 400W; Type: Zener; Unidirectional Channels: 1; Voltage - Breakdown (Min): 23V; Part Number: VTVS21ASMF-HM3-08; Applications: Automotive; ComponentLink1Description: Datasheet; ComponentLink1URL: http://www.vishay.com/docs/85891/vtvs3v3asmf.pdf; ComponentLink2Description: DigiKey Link; ComponentLink2URL: http://digikey.com/product-detail/en/vishay-semiconductor-diodes-division/VTVS21ASMF-HM3-08/VTVS21ASMF-HM3-08GICT-ND/7055987; LastUpdated: 9/2/2020 1:27:45 AM; Lifecycle Status: Active; Minimum Order: 1; Mounting Type: Surface Mount; Operating Temperature: -55°C ~ 175°C (TJ); Package / Case: DO-219AB; Packaging: TapeAndReel; PartId: 5515; Part Status: Active; Price: 0.12; Series: Automotive, AEC-Q101, TransZorb®; Supplier 1: DigiKey; Supplier Part Number 1: VTVS21ASMF-HM3-08GICT-ND; Supplier Device Package: DO-219AB (SMF); Voltage - Clamping (Max) @ Ipp: 34V; Voltage - Reverse Standoff (Typ): 20.5V
footprint SMF DO-219AB
pins: 1, 2

## VTVS21ASMF-M3-08
designator D?
TVS DIODE 20.5V 34V DO219AB; Manufacturer: Vishay Semiconductor Diodes Division; Capacitance @ Frequency: 513pF @ 1MHz; Current - Peak Pulse (10/1000µs): 11.33A; Power Line Protection: No; Power - Peak Pulse: 400W; Type: Zener; Unidirectional Channels: 1; Voltage - Breakdown (Min): 23V; Part Number: VTVS21ASMF-M3-08; Applications: General Purpose; ComponentLink1Description: Datasheet; ComponentLink1URL: http://www.vishay.com/docs/85891/vtvs3v3asmf.pdf; ComponentLink2Description: DigiKey Link; ComponentLink2URL: http://digikey.com/product-detail/en/vishay-semiconductor-diodes-division/VTVS21ASMF-M3-08/VTVS21ASMF-M3-08GICT-ND/7055988; LastUpdated: 9/2/2020 1:27:45 AM; Lifecycle Status: Active; Minimum Order: 1; Mounting Type: Surface Mount; Operating Temperature: -55°C ~ 175°C (TJ); Package / Case: DO-219AB; Packaging: TapeAndReel; PartId: 5494; Part Status: Active; Price: 0.11; Series: TransZorb®; Supplier 1: DigiKey; Supplier Part Number 1: VTVS21ASMF-M3-08GICT-ND; Supplier Device Package: DO-219AB (SMF); Voltage - Clamping (Max) @ Ipp: 34V; Voltage - Reverse Standoff (Typ): 20.5V
footprint SMF DO-219AB
pins: 1, 2

## VTVS21GSMF-HM3-08
designator D?
TVS DIODE 20.5V 34V DO219AB; Manufacturer: Vishay Semiconductor Diodes Division; Capacitance @ Frequency: 513pF @ 1MHz; Current - Peak Pulse (10/1000µs): 11.67A; Power Line Protection: No; Power - Peak Pulse: 400W; Type: Zener; Unidirectional Channels: 1; Voltage - Breakdown (Min): 23.72V; Part Number: VTVS21GSMF-HM3-08; Applications: Automotive; ComponentLink1Description: Datasheet; ComponentLink1URL: http://www.vishay.com/docs/85891/vtvs3v3asmf.pdf; ComponentLink2Description: DigiKey Link; ComponentLink2URL: http://digikey.com/product-detail/en/vishay-semiconductor-diodes-division/VTVS21GSMF-HM3-08/VTVS21GSMF-HM3-08GICT-ND/7055989; LastUpdated: 9/2/2020 1:27:45 AM; Lifecycle Status: Active; Minimum Order: 1; Mounting Type: Surface Mount; Operating Temperature: -55°C ~ 175°C (TJ); Package / Case: DO-219AB; Packaging: TapeAndReel; PartId: 5488; Part Status: Active; Price: 0.23; Series: Automotive, AEC-Q101, TransZorb®; Supplier 1: DigiKey; Supplier Part Number 1: VTVS21GSMF-HM3-08GICT-ND; Supplier Device Package: DO-219AB (SMF); Voltage - Clamping (Max) @ Ipp: 34V; Voltage - Reverse Standoff (Typ): 20.5V
footprint SMF DO-219AB
pins: 1, 2

## VTVS23ASMF-HM3-08
designator D?
TVS DIODE 22.6V 38V DO219AB; Manufacturer: Vishay Semiconductor Diodes Division; Capacitance @ Frequency: 480pF @ 1MHz; Current - Peak Pulse (10/1000µs): 10.09A; Power Line Protection: No; Power - Peak Pulse: 400W; Type: Zener; Unidirectional Channels: 1; Voltage - Breakdown (Min): 25.7V; Part Number: VTVS23ASMF-HM3-08; Applications: Automotive; ComponentLink1Description: Datasheet; ComponentLink1URL: http://www.vishay.com/docs/85891/vtvs3v3asmf.pdf; ComponentLink2Description: DigiKey Link; ComponentLink2URL: http://digikey.com/product-detail/en/vishay-semiconductor-diodes-division/VTVS23ASMF-HM3-08/VTVS23ASMF-HM3-08GICT-ND/9601412; LastUpdated: 9/2/2020 1:27:46 AM; Lifecycle Status: Active; Minimum Order: 1; Mounting Type: Surface Mount; Operating Temperature: -55°C ~ 175°C (TJ); Package / Case: DO-219AB; Packaging: TapeAndReel; PartId: 5534; Part Status: Active; Price: 0.12; Series: Automotive, AEC-Q101, TransZorb®; Supplier 1: DigiKey; Supplier Part Number 1: VTVS23ASMF-HM3-08GICT-ND; Supplier Device Package: DO-219AB (SMF); Voltage - Clamping (Max) @ Ipp: 38V; Voltage - Reverse Standoff (Typ): 22.6V
footprint SMF DO-219AB
pins: 1, 2

## VTVS25ASMF-HM3-08
designator D?
TVS DIODE 25.2V 42V DO219AB; Manufacturer: Vishay Semiconductor Diodes Division; Capacitance @ Frequency: 433pF @ 1MHz; Current - Peak Pulse (10/1000µs): 9.07A; Power Line Protection: No; Power - Peak Pulse: 400W; Type: DO-219AB; Unidirectional Channels: 1; Voltage - Breakdown (Min): 28.5V; Part Number: VTVS25ASMF-HM3-08; Applications: Automotive; ComponentLink1Description: Datasheet; ComponentLink1URL: http://www.vishay.com/docs/85891/vtvs3v3asmf.pdf; ComponentLink2Description: DigiKey Link; ComponentLink2URL: http://digikey.com/product-detail/en/vishay-semiconductor-diodes-division/VTVS25ASMF-HM3-08/112-VTVS25ASMF-HM3-08CT-ND/11562545; LastUpdated: 9/2/2020 1:27:45 AM; Lifecycle Status: Active; Minimum Order: 0; Mounting Type: Surface Mount; Operating Temperature: -55°C ~ 175°C (TJ); Package / Case: DO-219AB; Packaging: TapeAndReel; PartId: 5479; Part Status: -55°C ~ 175°C (TJ); Price: 0.10; Series: Automotive, AEC-Q101, TransZorb®; Supplier 1: DigiKey; Supplier Part Number 1: 112-VTVS25ASMF-HM3-08CT-ND; Supplier Device Package: DO-219AB (SMF); Voltage - Clamping (Max) @ Ipp: 42V; Voltage - Reverse Standoff (Typ): 25.2V
footprint SMF DO-219AB
pins: 1, 2

## VTVS28ASMF-HM3-08
designator D?
TVS DIODE 27.9V 47V DO219AB; Manufacturer: Vishay Semiconductor Diodes Division; Capacitance @ Frequency: 412pF @ 1MHz; Current - Peak Pulse (10/1000µs): 8.21A; Power Line Protection: No; Power - Peak Pulse: 400W; Type: Zener; Unidirectional Channels: 1; Voltage - Breakdown (Min): 31.4V; Part Number: VTVS28ASMF-HM3-08; Applications: Automotive; ComponentLink1Description: Datasheet; ComponentLink1URL: http://www.vishay.com/docs/85891/vtvs3v3asmf.pdf; ComponentLink2Description: DigiKey Link; ComponentLink2URL: http://digikey.com/product-detail/en/vishay-semiconductor-diodes-division/VTVS28ASMF-HM3-08/VTVS28ASMF-HM3-08GICT-ND/7055990; LastUpdated: 9/2/2020 1:27:46 AM; Lifecycle Status: Active; Minimum Order: 1; Mounting Type: Surface Mount; Operating Temperature: -55°C ~ 175°C (TJ); Package / Case: DO-219AB; Packaging: TapeAndReel; PartId: 5533; Part Status: Active; Price: 0.12; Series: Automotive, AEC-Q101, TransZorb®; Supplier 1: DigiKey; Supplier Part Number 1: VTVS28ASMF-HM3-08GICT-ND; Supplier Device Package: DO-219AB (SMF); Voltage - Clamping (Max) @ Ipp: 47V; Voltage - Reverse Standoff (Typ): 27.9V
footprint SMF DO-219AB
pins: 1, 2

## VTVS28ASMF-M3-08
designator D?
TVS DIODE 27.9V 47V DO219AB; Manufacturer: Vishay Semiconductor Diodes Division; Capacitance @ Frequency: 412pF @ 1MHz; Current - Peak Pulse (10/1000µs): 8.21A; Power Line Protection: No; Power - Peak Pulse: 400W; Type: Zener; Unidirectional Channels: 1; Voltage - Breakdown (Min): 31.4V; Part Number: VTVS28ASMF-M3-08; Applications: General Purpose; ComponentLink1Description: Datasheet; ComponentLink1URL: http://www.vishay.com/docs/85891/vtvs3v3asmf.pdf; ComponentLink2Description: DigiKey Link; ComponentLink2URL: http://digikey.com/product-detail/en/vishay-semiconductor-diodes-division/VTVS28ASMF-M3-08/VTVS28ASMF-M3-08GICT-ND/7055991; LastUpdated: 9/2/2020 1:27:45 AM; Lifecycle Status: Active; Minimum Order: 1; Mounting Type: Surface Mount; Operating Temperature: -55°C ~ 175°C (TJ); Package / Case: DO-219AB; Packaging: TapeAndReel; PartId: 5496; Part Status: Active; Price: 0.11; Series: TransZorb®; Supplier 1: DigiKey; Supplier Part Number 1: VTVS28ASMF-M3-08GICT-ND; Supplier Device Package: DO-219AB (SMF); Voltage - Clamping (Max) @ Ipp: 47V; Voltage - Reverse Standoff (Typ): 27.9V
footprint SMF DO-219AB
pins: 1, 2

## VTVS31ASMF-M3-08
designator D?
TVS DIODE 30.6V 51V DO219AB; Manufacturer: Vishay Semiconductor Diodes Division; Capacitance @ Frequency: 380pF @ 1MHz; Current - Peak Pulse (10/1000µs): 7.51A; Power Line Protection: No; Power - Peak Pulse: 400W; Type: DO-219AB; Unidirectional Channels: 1; Voltage - Breakdown (Min): 34.2V; Part Number: VTVS31ASMF-M3-08; Applications: General Purpose; ComponentLink1Description: Datasheet; ComponentLink1URL: http://www.vishay.com/docs/85891/vtvs3v3asmf.pdf; ComponentLink2Description: DigiKey Link; ComponentLink2URL: http://digikey.com/product-detail/en/vishay-semiconductor-diodes-division/VTVS31ASMF-M3-08/112-VTVS31ASMF-M3-08CT-ND/11562538; LastUpdated: 9/2/2020 1:27:45 AM; Lifecycle Status: Active; Minimum Order: 0; Mounting Type: Surface Mount; Operating Temperature: -55°C ~ 175°C (TJ); Package / Case: DO-219AB; Packaging: TapeAndReel; PartId: 5484; Part Status: -55°C ~ 175°C (TJ); Price: 0.09; Series: TransZorb®; Supplier 1: DigiKey; Supplier Part Number 1: 112-VTVS31ASMF-M3-08CT-ND; Supplier Device Package: DO-219AB (SMF); Voltage - Clamping (Max) @ Ipp: 51V; Voltage - Reverse Standoff (Typ): 30.6V
footprint SMF DO-219AB
pins: 1, 2